# EAGLE library part TS372 (library st-microelectronics)
IC COMPARATOR DUAL LO PWR
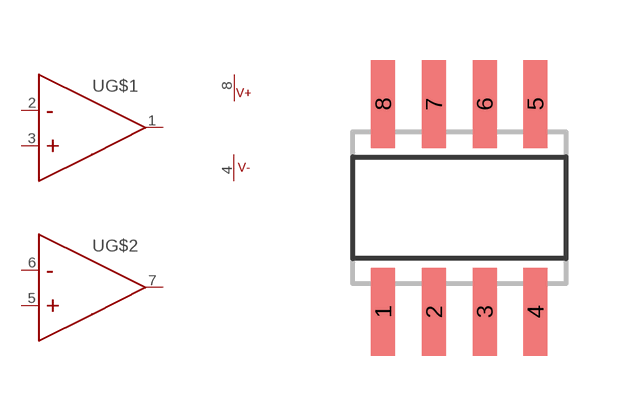
[diagram p39: symbol with the pads of SO08; footprint SO08]

Designator prefix U; gates G$1=TS372 G$2=TS372 G$3=PWR

## TS372 (DIGIKEY: 497-2271-1-ND; P1I: o)  [SO08]
1  G$1:OUT
2  G$1:1
3  G$1:+
4  G$3:V-
5  G$2:+
6  G$2:1
7  G$2:OUT
8  G$3:V+

## Footprint SO08 (pad centres in mm)
SMALL OUTLINE INTEGRATED CIRCUIT body 3.9 mm/JEDEC MS-012AA
smd 0.6 x 2.2: 1 -1.905,-2.6; 2 -0.635,-2.6; 3 0.635,-2.6; 4 1.905,-2.6; 5 1.905,2.6; 6 0.635,2.6; 7 -0.635,2.6; 8 -1.905,2.6